# EAGLE library part TPS2044B (library texas)
Texas Instruments TPS2044BD-SOIC Current-limited power distribution switches 0.5A continuous current, 1.25A max current, 3.3-5V Datasheet <http://www.ti.com/lit/ds/symlink/tps2044b.pdf> NOTE: These replace the older TPS2044/54 switches.
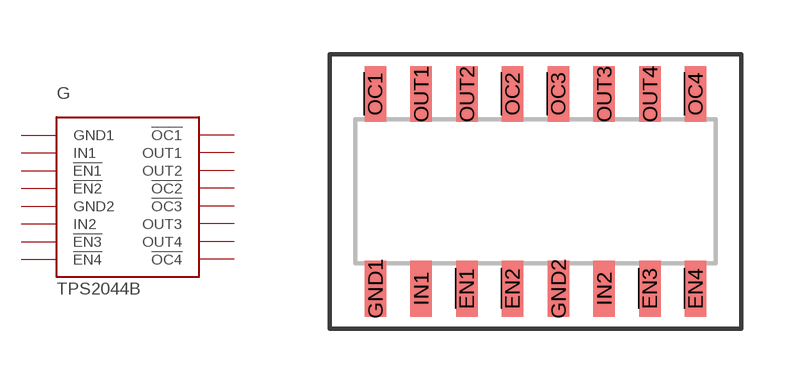
[diagram p124: symbol with the pads of TPS2044; footprint TPS2044]

Designator prefix G

## TPS2044BBD-SOIC  [TPS2044]
!EN1!  !EN1!
!EN2!  !EN2!
!EN3!  !EN3!
!EN4!  !EN4!
!OC1!  !OC1!
!OC2!  !OC2!
!OC3!  !OC3!
!OC4!  !OC4!
GND1  GND1
GND2  GND2
IN1  IN1
IN2  IN2
OUT1  OUT1
OUT2  OUT2
OUT3  OUT3
OUT4  OUT4

## Footprint TPS2044 (pad centres in mm)
smd 0.6 x 1.55: !EN1! -1.905,-2.7; !EN2! -0.635,-2.7; !EN3! 3.175,-2.7; !EN4! 4.445,-2.7; !OC1! -4.445,2.7; !OC2! -0.635,2.7; !OC3! 0.635,2.7; !OC4! 4.445,2.7; GND1 -4.445,-2.7; GND2 0.635,-2.7; IN1 -3.175,-2.7; IN2 1.905,-2.7; OUT1 -3.175,2.7; OUT2 -1.905,2.7; OUT3 1.905,2.7; OUT4 3.175,2.7